# EAGLE library part DS-1013-10 (library IDC)
Вилка на плату прямая/угловая 10 конт. 2.54мм https://www.chipdip.ru/product/idc-10ms https://www.chipdip.ru/product/idc-10mr
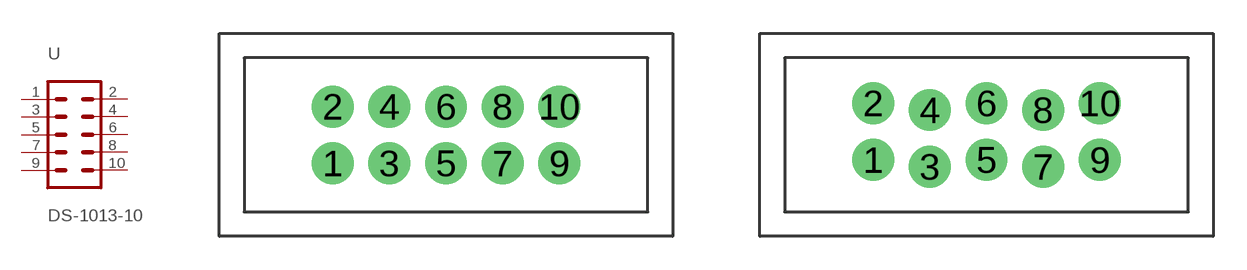
[diagram p0: symbol with the pads of DS1013-10; footprints DS1013-10, DS1013-10-LOCK]

Designator prefix -

## DS-1013-10  [DS1013-10]
1  1  pas
2  2  pas
3  3  pas
4  4  pas
5  5  pas
6  6  pas
7  7  pas
8  8  pas
9  9  pas
10  10  pas

## DS-1013-10LOCK  [DS1013-10-LOCK]
Pads as for DS1013-10

## DS-1013-10R  [DS1013-10R]
Pads as for DS1013-10

## DS-1013-10R-LOCK  [DS1013-10R-LOCK]
Pads as for DS1013-10

## Footprint DS1013-10 (pad centres in mm)
BH-10 (DS1013-10S) (IDC-10MS), Вилка на плату прямая 10 конт. 2.54мм https://www.chipdip.ru/product/idc-10ms?from=rec_product
drill 1.016 pad 1.88: 1 -5.08,-1.27; 2 -5.08,1.27; 3 -2.54,-1.27; 4 -2.54,1.27; 5 0,-1.27; 6 0,1.27; 7 2.54,-1.27; 8 2.54,1.27; 9 5.08,-1.27; 10 5.08,1.27

## Footprint DS1013-10-LOCK (pad centres in mm)
BH-10 (DS1013-10S) (IDC-10MS), Вилка на плату прямая 10 конт. 2.54мм https://www.chipdip.ru/product/idc-10ms?from=rec_product Этот футпринт "заклинивает" ножки разъема,что очень удобно при пайке
drill 1.016 pad 1.88: 1 -5.08,-1.118; 2 -5.08,1.422; 3 -2.54,-1.422; 4 -2.54,1.118; 5 0,-1.118; 6 0,1.422; 7 2.54,-1.422; 8 2.54,1.118; 9 5.08,-1.118; 10 5.08,1.422

## Footprint DS1013-10R (pad centres in mm)
BH-10R (DS1013-10R) (IDC-10MR), Вилка на плату угловая 10 конт. 2.54мм https://www.chipdip.ru/product/idc-10mr?from=visited_product
drill 1.016 pad 1.88: 1 -5.08,-1.27; 2 -5.08,1.27; 3 -2.54,-1.27; 4 -2.54,1.27; 5 0,-1.27; 6 0,1.27; 7 2.54,-1.27; 8 2.54,1.27; 9 5.08,-1.27; 10 5.08,1.27

## Footprint DS1013-10R-LOCK (pad centres in mm)
BH-10R (DS1013-10R) (IDC-10MR), Вилка на плату угловая 10 конт. 2.54мм https://www.chipdip.ru/product/idc-10mr?from=visited_product Этот футпринт "заклинивает" ножки разъема,что очень удобно при пайке
drill 1.016 pad 1.88: 1 -5.08,-1.118; 2 -5.08,1.422; 3 -2.54,-1.422; 4 -2.54,1.118; 5 0,-1.118; 6 0,1.422; 7 2.54,-1.422; 8 2.54,1.118; 9 5.08,-1.118; 10 5.08,1.422